# Altium schematic symbol library sch.SchLib: 275 symbols (part 2 of 2)
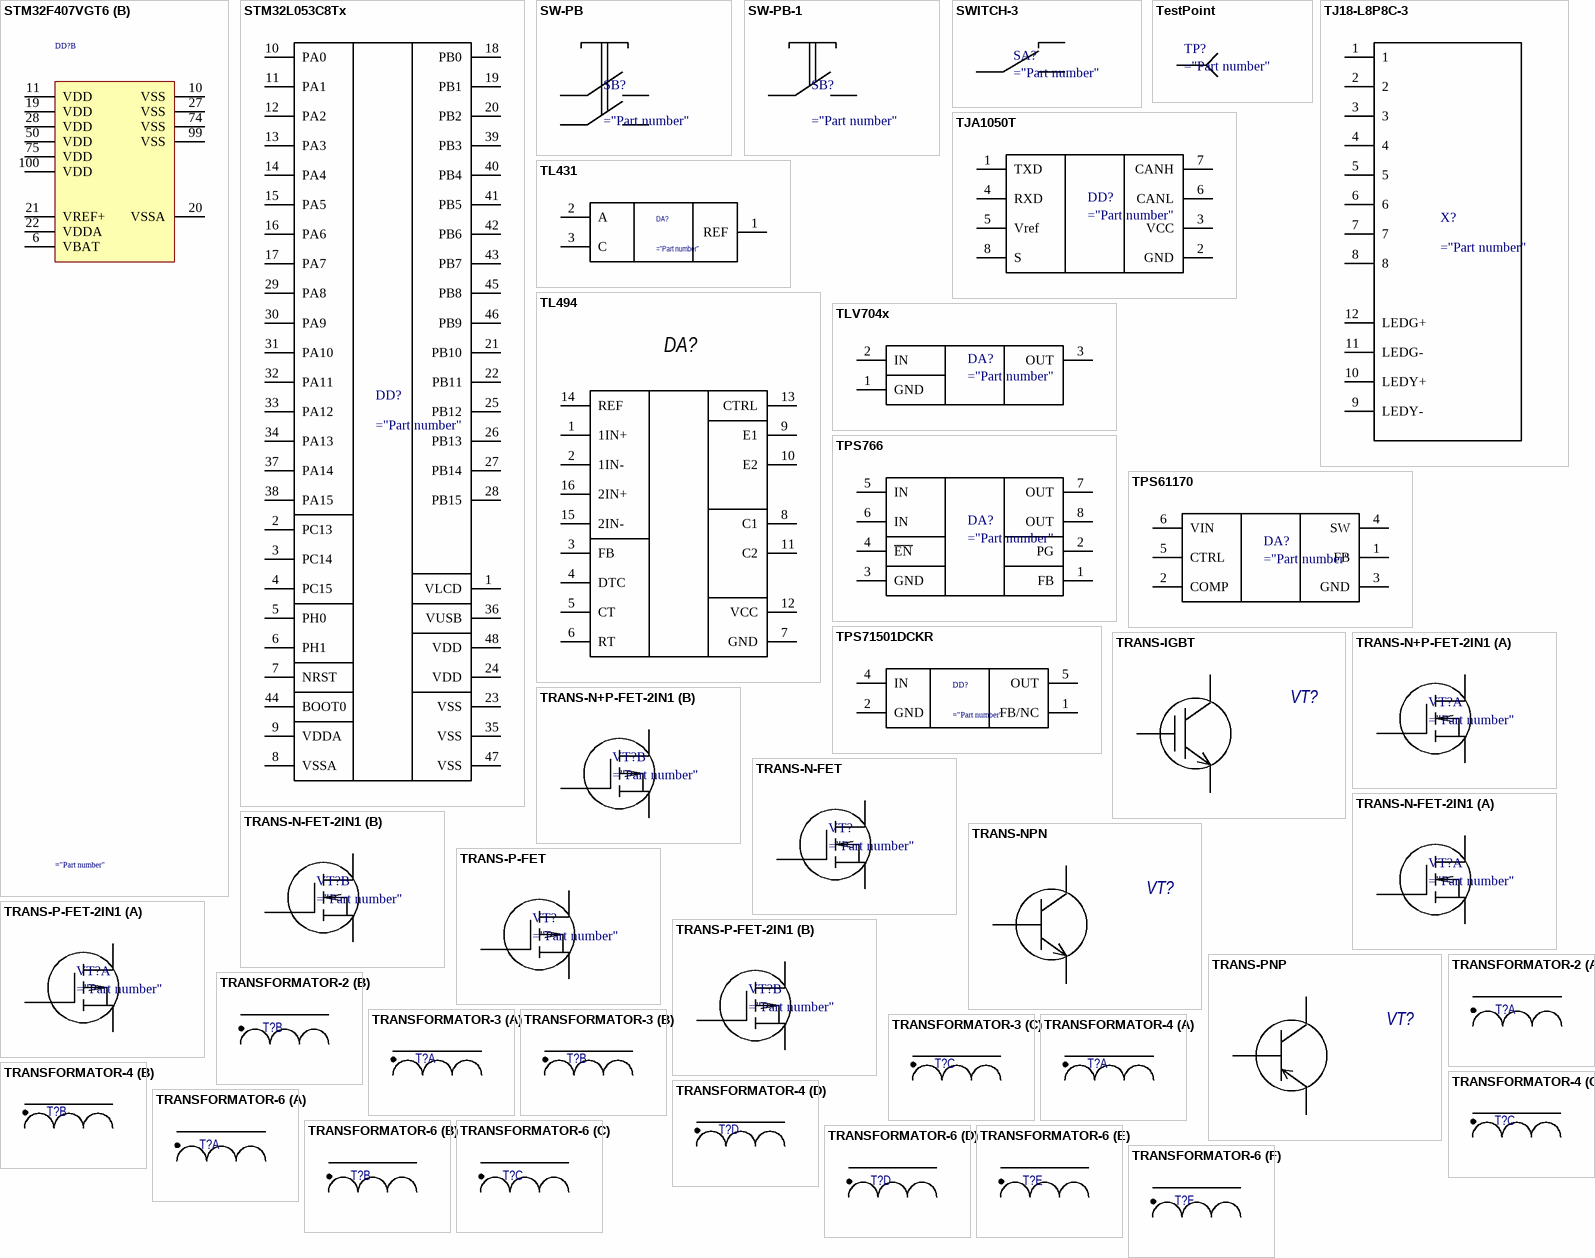
[diagram p17: symbols STM32F407VGT6 to TRANSFORMATOR-6]

## STM32L053C8Tx
designator DD?
pins: 1 VLCD, 2 PC13, 3 PC14, 4 PC15, 5 PH0, 6 PH1, 7 NRST, 8 VSSA, 9 VDDA, 10 PA0, 11 PA1, 12 PA2, 13 PA3, 14 PA4, 15 PA5, 16 PA6, 17 PA7, 18 PB0, 19 PB1, 20 PB2, 21 PB10, 22 PB11, 23 VSS, 24 VDD, 25 PB12, 26 PB13, 27 PB14, 28 PB15, 29 PA8, 30 PA9, 31 PA10, 32 PA11, 33 PA12, 34 PA13, 35 VSS, 36 VUSB, 37 PA14, 38 PA15, 39 PB3, 40 PB4, 41 PB5, 42 PB6, 43 PB7, 44 BOOT0, 45 PB8, 46 PB9, 47 VSS, 48 VDD

## SW-PB
designator SB?
pins: 1, 2, 3, 4

## SW-PB-1
designator SB?
pins: 1, 2

## SWITCH-3
designator SA?
pins: 1, 2, 3

## TestPoint
designator TP?  (no BOM)
pins: 1

## TJ18-L8P8C-3
designator X?
pins: 1, 2, 3, 4, 5, 6, 7, 8, 9 LEDY-, 10 LEDY+, 11 LEDG-, 12 LEDG+

## TJA1050T
designator DD?
pins: 1 TXD, 2 GND, 3 VCC, 4 RXD, 5 Vref, 6 CANL, 7 CANH, 8 S

## TL431
designator DA?
pins: 1 REF, 2 A, 3 C

## TL494
designator DA?
pins: 1 1IN+, 2 1IN-, 3 FB, 4 DTC, 5 CT, 6 RT, 7 GND, 8 C1, 9 E1, 10 E2, 11 C2, 12 VCC, 13 CTRL, 14 REF, 15 2IN-, 16 2IN+

## TLV704x
designator DA?
pins: 1 GND, 2 IN, 3 OUT

## TPS766
designator DA?
pins: 1 FB, 2 PG, 3 GND, 4 ~{EN}, 5 IN, 6 IN, 7 OUT, 8 OUT

## TPS61170
designator DA?
pins: 1 FB, 2 COMP, 3 GND, 4 SW, 5 CTRL, 6 VIN

## TPS71501DCKR
designator DD?
pins: 1 FB/NC, 2 GND, 4 IN, 5 OUT

## TRANS-IGBT
designator VT?
pins: C, E, G

## TRANS-N+P-FET-2IN1
designator VT?
part A pins: D1, G1, S1
part B pins: D2, G2, S2

## TRANS-N-FET
designator VT?
pins: D, G, S

## TRANS-N-FET-2IN1
designator VT?
part A pins: D1, G1, S1
part B pins: D2, G2, S2

## TRANS-NPN
designator VT?
pins: B, C, E

## TRANS-P-FET
designator VT?
pins: D, G, S

## TRANS-P-FET-2IN1
designator VT?
part A pins: D1, G1, S1
part B pins: D2, G2, S2

## TRANS-PNP
designator VT?
pins: B, C, E

## TRANSFORMATOR-2
designator T?
part A pins: 1, 2
part B pins: 3, 4

## TRANSFORMATOR-3
designator T?
part A pins: 1, 2
part B pins: 3, 4
part C pins: 5, 6

## TRANSFORMATOR-4
designator T?
part A pins: 7, 8
part B pins: 1, 2
part C pins: 3, 4
part D pins: 5, 6

## TRANSFORMATOR-6
designator T?
part A pins: 1, 2
part B pins: 3, 4
part C pins: 5, 6
part D pins: 7, 8
part E pins: 9, 10
part F pins: 11, 12

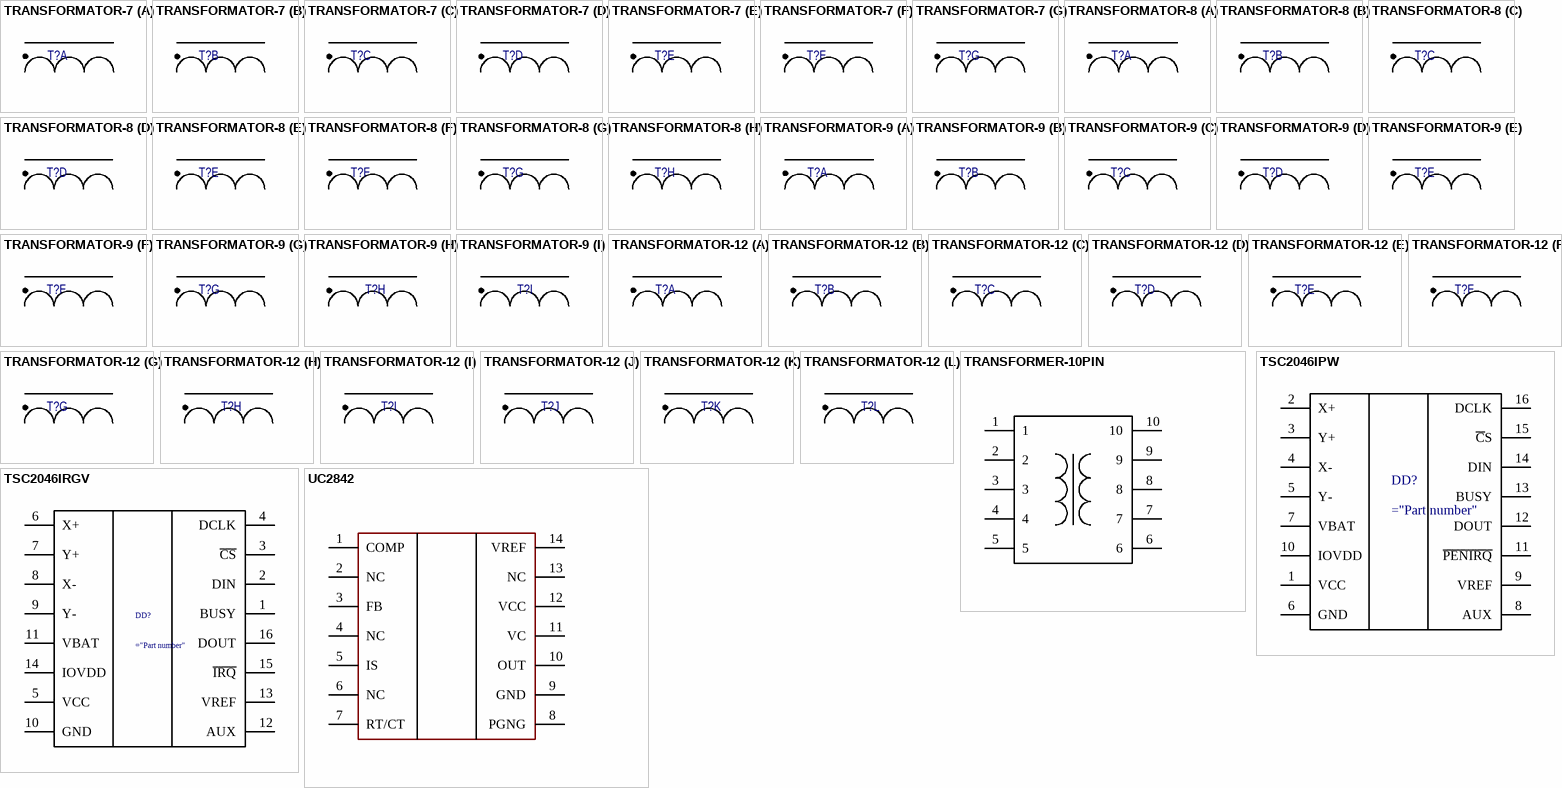
[diagram p15: symbols TRANSFORMATOR-7 to UC2842]

## TRANSFORMATOR-7
designator T?
part A pins: 1, 2
part B pins: 3, 4
part C pins: 5, 6
part D pins: 7, 8
part E pins: 9, 10
part F pins: 11, 12
part G pins: 13, 14

## TRANSFORMATOR-8
designator T?
part A pins: 1, 2
part B pins: 3, 4
part C pins: 5, 6
part D pins: 7, 8
part E pins: 9, 10
part F pins: 11, 12
part G pins: 13, 14
part H pins: 15, 16

## TRANSFORMATOR-9
designator T?
part A pins: 1, 2
part B pins: 3, 4
part C pins: 5, 6
part D pins: 7, 8
part E pins: 9, 10
part F pins: 11, 12
part G pins: 13, 14
part H pins: 15, 16
part I pins: 17, 18

## TRANSFORMATOR-12
designator T?
part A pins: 1, 2
part B pins: 3, 4
part C pins: 5, 6
part D pins: 7, 8
part E pins: 9, 10
part F pins: 11, 12
part G pins: 13, 14
part H pins: 15, 16
part I pins: 17, 18
part J pins: 19, 20
part K pins: 21, 22
part L pins: 23, 24

## TRANSFORMER-10PIN
designator T?
pins: 1 "PA1/USART2_RTS/ADC1_IN1/TIM2_CH2", 2 "PA1/USART2_RTS/ADC1_IN1/TIM2_CH2", 3 "PA1/USART2_RTS/ADC1_IN1/TIM2_CH2", 4 "PA1/USART2_RTS/ADC1_IN1/TIM2_CH2", 5 "PA1/USART2_RTS/ADC1_IN1/TIM2_CH2", 6 "PA1/USART2_RTS/ADC1_IN1/TIM2_CH2", 7 "PA1/USART2_RTS/ADC1_IN1/TIM2_CH2", 8 "PA1/USART2_RTS/ADC1_IN1/TIM2_CH2", 9 "PA1/USART2_RTS/ADC1_IN1/TIM2_CH2", 10 "PA1/USART2_RTS/ADC1_IN1/TIM2_CH2"

## TSC2046IPW
designator DD?
pins: 1 VCC, 2 X+, 3 Y+, 4 X-, 5 Y-, 6 GND, 7 VBAT, 8 AUX, 9 VREF, 10 IOVDD, 11 ~{PENIRQ}, 12 DOUT, 13 BUSY, 14 DIN, 15 ~{C}S, 16 DCLK

## TSC2046IRGV
designator DD?
pins: 1 BUSY, 2 DIN, 3 ~{CS}, 4 DCLK, 5 VCC, 6 X+, 7 Y+, 8 X-, 9 Y-, 10 GND, 11 VBAT, 12 AUX, 13 VREF, 14 IOVDD, 15 ~{IRQ}, 16 DOUT

## UC2842
designator DA?
pins: 1 COMP, 2 NC, 3 FB, 4 NC, 5 IS, 6 NC, 7 RT/CT, 8 PGNG, 9 GND, 10 OUT, 11 VC, 12 VCC, 13 NC, 14 VREF

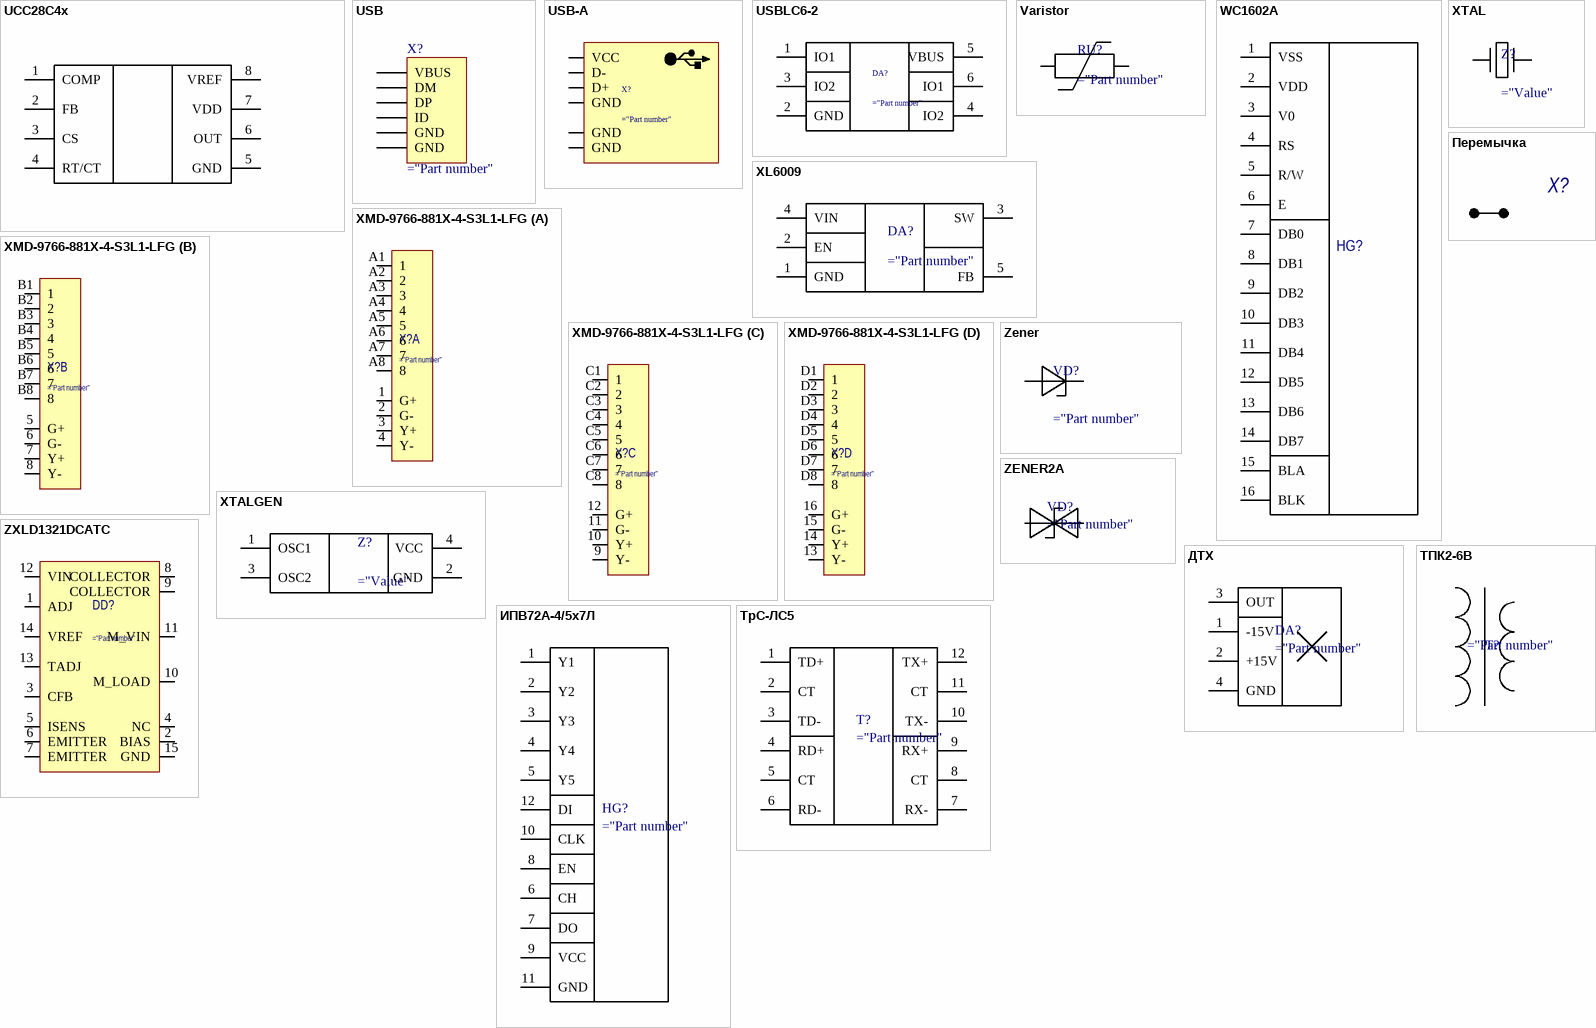
[diagram p16: symbols UCC28C4x to ТрС-ЛС5]

## UCC28C4x
designator DA?
pins: 1 COMP, 2 FB, 3 CS, 4 RT/CT, 5 GND, 6 OUT, 7 VDD, 8 VREF

## USB
designator X?
pins: 1 VBUS, 2 DM, 3 DP, 4 ID, 5 GND, 6 GND
3 alternate drawings of the same symbol

## USB-A
designator X?
pins: 1 VCC, 2 D-, 3 D+, 4 GND, 5 GND, 6 GND

## USBLC6-2
designator DA?
pins: 1 IO1, 2 GND, 3 IO2, 4 IO2, 5 VBUS, 6 IO1

## Varistor
designator RU?
pins: 1, 2

## WC1602A
designator HG?
pins: 1 VSS, 2 VDD, 3 V0, 4 RS, 5 R/W, 6 E, 7 DB0, 8 DB1, 9 DB2, 10 DB3, 11 DB4, 12 DB5, 13 DB6, 14 DB7, 15 BLA, 16 BLK

## XL6009
designator DA?
pins: 1 GND, 2 EN, 3 SW, 4 VIN, 5 FB

## XMD-9766-881X-4-S3L1-LFG
designator X?
part A pins: 1 G+, 2 G-, 3 Y+, 4 Y-, A1 1, A2 2, A3 3, A4 4, A5 5, A6 6, A7 7, A8 8
part B pins: 5 G+, 6 G-, 7 Y+, 8 Y-, B1 1, B2 2, B3 3, B4 4, B5 5, B6 6, B7 7, B8 8
part C pins: 9 Y-, 10 Y+, 11 G-, 12 G+, C1 1, C2 2, C3 3, C4 4, C5 5, C6 6, C7 7, C8 8
part D pins: 13 Y-, 14 Y+, 15 G-, 16 G+, D1 1, D2 2, D3 3, D4 4, D5 5, D6 6, D7 7, D8 8

## XTAL
designator Z?
pins: 1 OSC1, 2 OSC2

## XTALGEN
designator Z?
pins: 1 OSC1, 2 GND, 3 OSC2, 4 VCC

## Zener
designator VD?
pins: A, C

## ZENER2A
designator VD?
pins: A, C

## ZXLD1321DCATC
designator DD?
pins: 1 ADJ, 2 BIAS, 3 CFB, 4 NC, 5 ISENS, 6 EMITTER, 7 EMITTER, 8 COLLECTOR, 9 COLLECTOR, 10 M_LOAD, 11 M_VIN, 12 VIN, 13 TADJ, 14 VREF, 15 GND

## ДТХ
designator DA?
pins: 1 -15V, 2 +15V, 3 OUT, 4 GND

## ИПВ72А-4/5х7Л
designator HG?
pins: 1 Y1, 2 Y2, 3 Y3, 4 Y4, 5 Y5, 6 CH, 7 DO, 8 EN, 9 VCC, 10 CLK, 11 GND, 12 DI

## Перемычка
designator X?  (no BOM)
pins: 1, 2

## ТПК2-6В
designator T?
pins: 1, 5, 7, 9

## ТрС-ЛС5
designator T?
pins: 1 TD+, 2 CT, 3 TD-, 4 RD+, 5 CT, 6 RD-, 7 RX-, 8 CT, 9 RX+, 10 TX-, 11 CT, 12 TX+